# EAGLE library part PIXY2HEADER (library Logicar Rev 2 Lib)
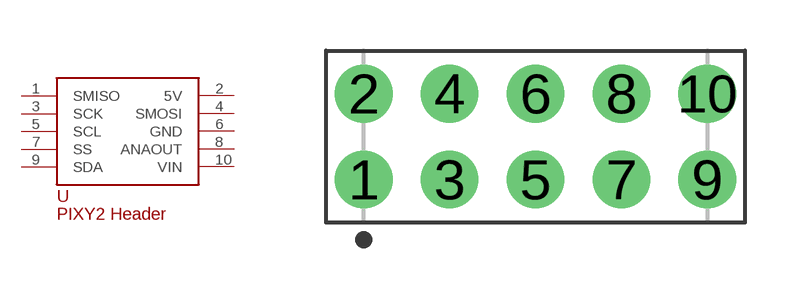
[diagram p3: symbol with the pads of PIXY2PIN; footprint PIXY2PIN]

Designator prefix -

## PIXY2HEADER  [PIXY2PIN]
1  SMISO
2  5V
3  SCK
4  SMOSI
5  SCL
6  GND
7  SS
8  ANAOUT
9  SDA
10  VIN

## Footprint PIXY2PIN (pad centres in mm)
Double-row, 10-pin Pin Header (Male) Straight, 2.54 mm (0.10 in) row pitch, 2.54 mm (0.10 in) col pitch, 5.84 mm mating length, 10.16 X 5.08 X 8.38 mm body Double-row (2X5), 10-pin Pin Header (Male) Straight package with 2.54 mm (0.10 in) row pitch, 2.54 mm (0.10 in) col pitch, 0.64 mm lead width, 3.00 mm tail length and 5.84 mm mating length with overall size 10.16 X 5.08 X 8.38 mm, pin pattern - zigzag from bottom left
drill 1.105 pad 1.705: 1 0,0; 2 0,2.54; 3 2.54,0; 4 2.54,2.54; 5 5.08,0; 6 5.08,2.54; 7 7.62,0; 8 7.62,2.54; 9 10.16,0; 10 10.16,2.54